# Altium footprint library Mounting_Wuerth.PcbLib: 191 footprints (part 12 of 12)
Each footprint in its own frame and in the unit in brackets; x right, y up, seen from the top. Pads: shape width x height; smd on the part's side, far side on the other; paste and mask are expansions set on the pad; w line width, h text height; cw(c..) or ccw(c..) is an arc to the next point about the centre after c.
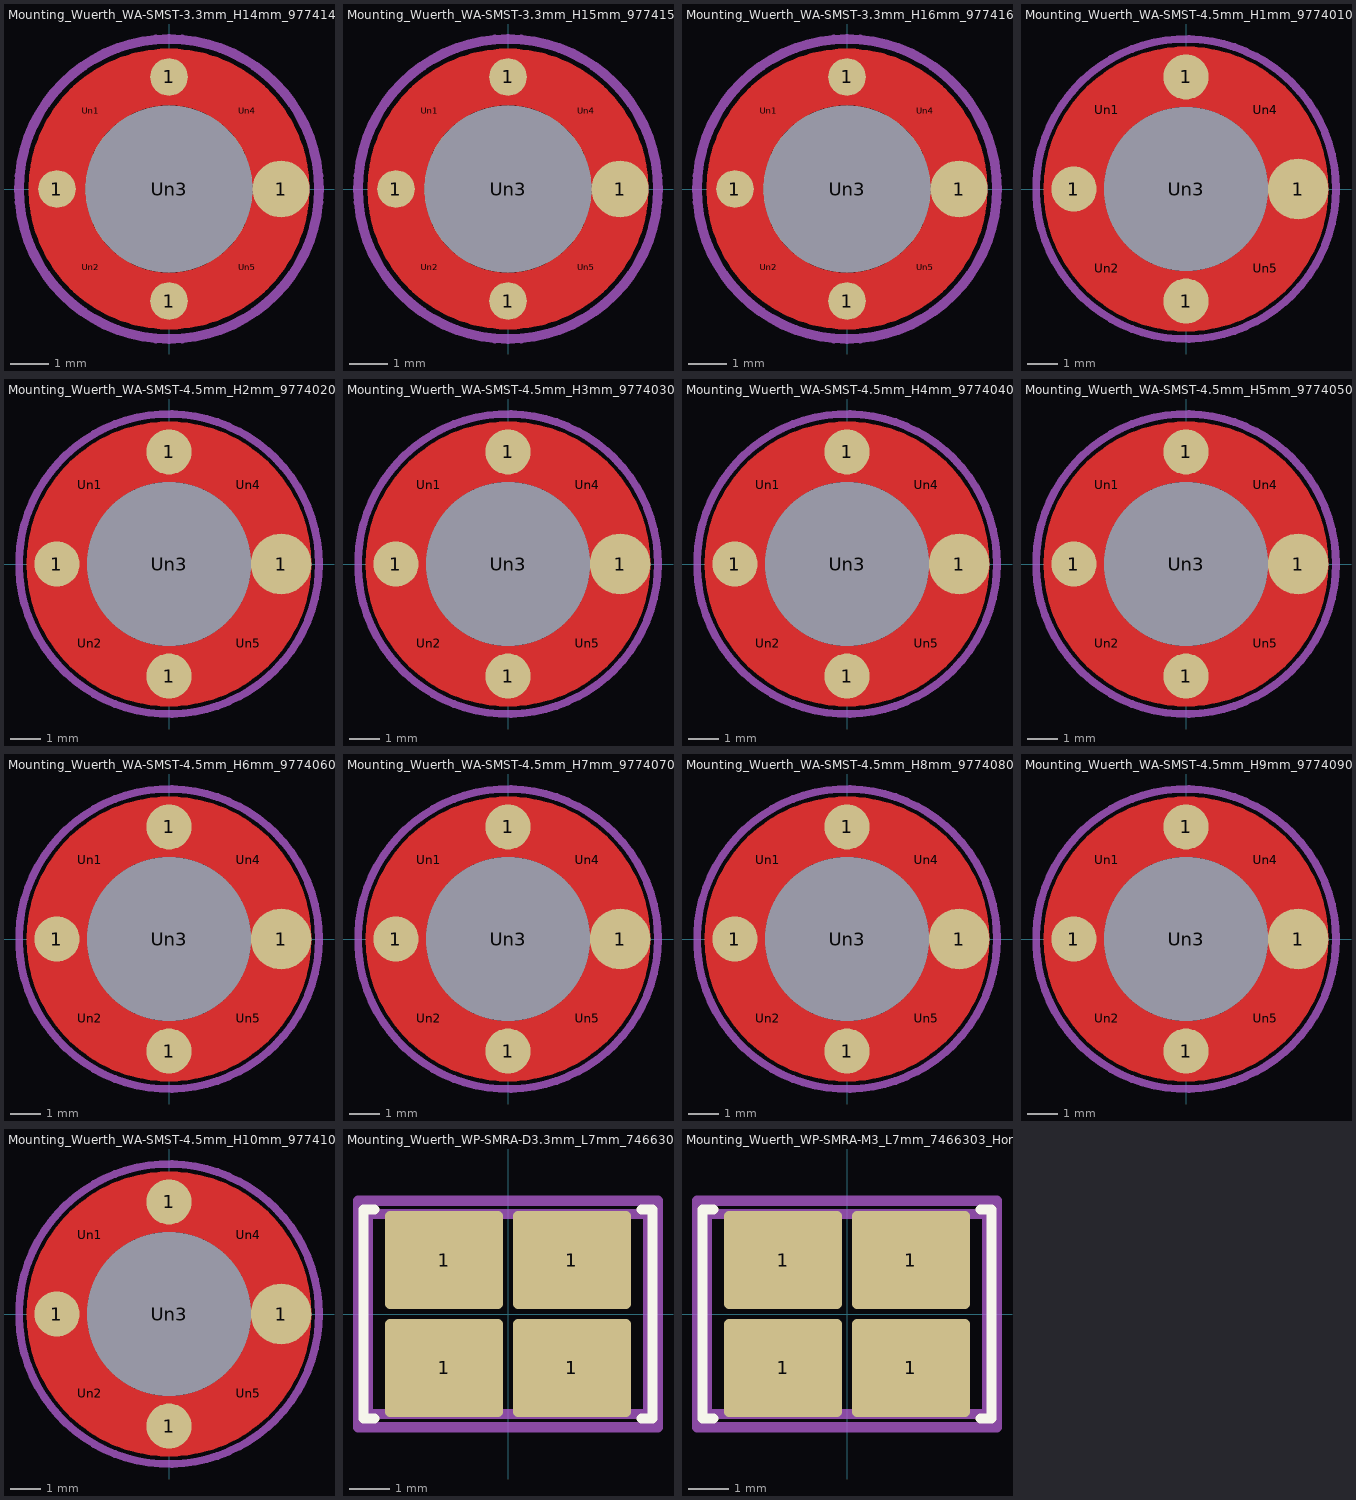
[diagram p11: the footprints below, top view; thin cyan lines are the x and y axes]

## Mounting_Wuerth_WA-SMST-3.3mm_H14mm_9774140960 [mm]
pads (9):
  round 0.992 smd: 1(-2.95,0) 1(0,-2.95) 1(0,2.95)
  round 1.5 smd: 1(2.95,0)
  round 0.55 on Top Paste: Un1(-2.058,2.058) Un2(-2.058,-2.058) Un4(2.058,2.058) Un5(2.058,-2.058)
  round 4.4 hole 4.4: Un3(0,0)
F.Cu:
  circle w1.5: c0,0 r2.95
F.Paste:
  lines w0.2: -3.342,-0.35 -2.435,-0.35 ; -3.342,0.35 -2.435,0.35 ; -0.35,-3.342 -0.35,-2.435 ; -0.35,2.435 -0.35,3.342 ; 0.35,-3.342 0.35,-2.435 ; 0.35,2.435 0.35,3.342 ; 2.435,-0.35 3.342,-0.35 ; 2.435,0.35 3.342,0.35
F.Mask:
  circle w1.5: c0,0 r2.95
Top Assembly:
  circle w0.254: c0,0 r3
  text "'.Designator'" at -4.047,-0.84 h1
Top Courtyard:
  circle w0.254: c0,0 r3.95
Top Designator:
  text ".Designator" at -7.677,-0.508 h1.52
3D body "Mounting_Wuerth_WA-SMST-3.3mm_H14mm_9774140960.step": height 14, standoff -1.4, extent -3,-3 3,3

## Mounting_Wuerth_WA-SMST-3.3mm_H15mm_9774150960 [mm]
pads (9):
  round 0.992 smd: 1(-2.95,0) 1(0,-2.95) 1(0,2.95)
  round 1.5 smd: 1(2.95,0)
  round 0.55 on Top Paste: Un1(-2.058,2.058) Un2(-2.058,-2.058) Un4(2.058,2.058) Un5(2.058,-2.058)
  round 4.4 hole 4.4: Un3(0,0)
F.Cu:
  circle w1.5: c0,0 r2.95
F.Paste:
  lines w0.2: -3.342,-0.35 -2.435,-0.35 ; -3.342,0.35 -2.435,0.35 ; -0.35,-3.342 -0.35,-2.435 ; -0.35,2.435 -0.35,3.342 ; 0.35,-3.342 0.35,-2.435 ; 0.35,2.435 0.35,3.342 ; 2.435,-0.35 3.342,-0.35 ; 2.435,0.35 3.342,0.35
F.Mask:
  circle w1.5: c0,0 r2.95
Top Assembly:
  circle w0.254: c0,0 r3
  text "'.Designator'" at -4.047,-0.84 h1
Top Courtyard:
  circle w0.254: c0,0 r3.95
Top Designator:
  text ".Designator" at -7.677,-0.508 h1.52
3D body "Mounting_Wuerth_WA-SMST-3.3mm_H15mm_9774150960.step": height 15, standoff -1.4, extent -3,-3 3,3

## Mounting_Wuerth_WA-SMST-3.3mm_H16mm_9774160960 [mm]
pads (9):
  round 0.992 smd: 1(-2.95,0) 1(0,-2.95) 1(0,2.95)
  round 1.5 smd: 1(2.95,0)
  round 0.55 on Top Paste: Un1(-2.058,2.058) Un2(-2.058,-2.058) Un4(2.058,2.058) Un5(2.058,-2.058)
  round 4.4 hole 4.4: Un3(0,0)
F.Cu:
  circle w1.5: c0,0 r2.95
F.Paste:
  lines w0.2: -3.342,-0.35 -2.435,-0.35 ; -3.342,0.35 -2.435,0.35 ; -0.35,-3.342 -0.35,-2.435 ; -0.35,2.435 -0.35,3.342 ; 0.35,-3.342 0.35,-2.435 ; 0.35,2.435 0.35,3.342 ; 2.435,-0.35 3.342,-0.35 ; 2.435,0.35 3.342,0.35
F.Mask:
  circle w1.5: c0,0 r2.95
Top Assembly:
  circle w0.254: c0,0 r3
  text "'.Designator'" at -4.047,-0.84 h1
Top Courtyard:
  circle w0.254: c0,0 r3.95
Top Designator:
  text ".Designator" at -7.677,-0.508 h1.52

## Mounting_Wuerth_WA-SMST-4.5mm_H1mm_9774010982 [mm]
pads (9):
  round 1.492 smd: 1(-3.7,0) 1(0,-3.7) 1(0,3.7)
  round 2 smd: 1(3.7,0)
  round 0.947 on Top Paste: Un1(-2.607,2.607) Un2(-2.607,-2.607) Un4(2.607,2.607) Un5(2.607,-2.607)
  round 5.4 hole 5.4: Un3(0,0)
F.Cu:
  circle w2: c0,0 r3.7
F.Paste:
  lines w0.2: -4.507,-0.5 -2.796,-0.5 ; -4.507,0.5 -2.796,0.5 ; -0.5,-4.507 -0.5,-2.796 ; -0.5,2.796 -0.5,4.507 ; 0.5,-4.507 0.5,-2.796 ; 0.5,2.796 0.5,4.507 ; 2.796,-0.5 4.507,-0.5 ; 2.796,0.5 4.507,0.5
F.Mask:
  circle w2: c0,0 r3.7
Top Assembly:
  circle w0.254: c0,0 r4.1
  text "'.Designator'" at -4.047,-0.84 h1
Top Courtyard:
  circle w0.254: c0,0 r4.95
Top Designator:
  text ".Designator" at -7.618,-0.508 h1.52
3D body "Mounting_Wuerth_WA-SMST-4.5mm_H1mm_9774010982.step": height 1, standoff -1.4, extent -4.1,-4.1 4.1,4.1

## Mounting_Wuerth_WA-SMST-4.5mm_H2mm_9774020982 [mm]
pads (9):
  round 1.492 smd: 1(-3.7,0) 1(0,-3.7) 1(0,3.7)
  round 2 smd: 1(3.7,0)
  round 0.947 on Top Paste: Un1(-2.607,2.607) Un2(-2.607,-2.607) Un4(2.607,2.607) Un5(2.607,-2.607)
  round 5.4 hole 5.4: Un3(0,0)
F.Cu:
  circle w2: c0,0 r3.7
F.Paste:
  lines w0.2: -4.507,-0.5 -2.796,-0.5 ; -4.507,0.5 -2.796,0.5 ; -0.5,-4.507 -0.5,-2.796 ; -0.5,2.796 -0.5,4.507 ; 0.5,-4.507 0.5,-2.796 ; 0.5,2.796 0.5,4.507 ; 2.796,-0.5 4.507,-0.5 ; 2.796,0.5 4.507,0.5
F.Mask:
  circle w2: c0,0 r3.7
Top Assembly:
  circle w0.254: c0,0 r4.1
  text "'.Designator'" at -4.047,-0.84 h1
Top Courtyard:
  circle w0.254: c0,0 r4.95
Top Designator:
  text ".Designator" at -7.618,-0.508 h1.52
3D body "Mounting_Wuerth_WA-SMST-4.5mm_H2mm_9774020982.step": height 2, standoff -1.4, extent -4.1,-4.1 4.1,4.1

## Mounting_Wuerth_WA-SMST-4.5mm_H3mm_9774030982 [mm]
pads (9):
  round 1.492 smd: 1(-3.7,0) 1(0,-3.7) 1(0,3.7)
  round 2 smd: 1(3.7,0)
  round 0.947 on Top Paste: Un1(-2.607,2.607) Un2(-2.607,-2.607) Un4(2.607,2.607) Un5(2.607,-2.607)
  round 5.4 hole 5.4: Un3(0,0)
F.Cu:
  circle w2: c0,0 r3.7
F.Paste:
  lines w0.2: -4.507,-0.5 -2.796,-0.5 ; -4.507,0.5 -2.796,0.5 ; -0.5,-4.507 -0.5,-2.796 ; -0.5,2.796 -0.5,4.507 ; 0.5,-4.507 0.5,-2.796 ; 0.5,2.796 0.5,4.507 ; 2.796,-0.5 4.507,-0.5 ; 2.796,0.5 4.507,0.5
F.Mask:
  circle w2: c0,0 r3.7
Top Assembly:
  circle w0.254: c0,0 r4.1
  text "'.Designator'" at -4.047,-0.84 h1
Top Courtyard:
  circle w0.254: c0,0 r4.95
Top Designator:
  text ".Designator" at -7.618,-0.508 h1.52
3D body "Mounting_Wuerth_WA-SMST-4.5mm_H3mm_9774030982.step": height 3, standoff -1.4, extent -4.1,-4.1 4.1,4.1

## Mounting_Wuerth_WA-SMST-4.5mm_H4mm_9774040982 [mm]
pads (9):
  round 1.492 smd: 1(-3.7,0) 1(0,-3.7) 1(0,3.7)
  round 2 smd: 1(3.7,0)
  round 0.947 on Top Paste: Un1(-2.607,2.607) Un2(-2.607,-2.607) Un4(2.607,2.607) Un5(2.607,-2.607)
  round 5.4 hole 5.4: Un3(0,0)
F.Cu:
  circle w2: c0,0 r3.7
F.Paste:
  lines w0.2: -4.507,-0.5 -2.796,-0.5 ; -4.507,0.5 -2.796,0.5 ; -0.5,-4.507 -0.5,-2.796 ; -0.5,2.796 -0.5,4.507 ; 0.5,-4.507 0.5,-2.796 ; 0.5,2.796 0.5,4.507 ; 2.796,-0.5 4.507,-0.5 ; 2.796,0.5 4.507,0.5
F.Mask:
  circle w2: c0,0 r3.7
Top Assembly:
  circle w0.254: c0,0 r4.1
  text "'.Designator'" at -4.047,-0.84 h1
Top Courtyard:
  circle w0.254: c0,0 r4.95
Top Designator:
  text ".Designator" at -7.618,-0.508 h1.52
3D body "Mounting_Wuerth_WA-SMST-4.5mm_H4mm_9774040982.step": height 4, standoff -1.4, extent -4.1,-4.1 4.1,4.1

## Mounting_Wuerth_WA-SMST-4.5mm_H5mm_9774050982 [mm]
pads (9):
  round 1.492 smd: 1(-3.7,0) 1(0,-3.7) 1(0,3.7)
  round 2 smd: 1(3.7,0)
  round 0.947 on Top Paste: Un1(-2.607,2.607) Un2(-2.607,-2.607) Un4(2.607,2.607) Un5(2.607,-2.607)
  round 5.4 hole 5.4: Un3(0,0)
F.Cu:
  circle w2: c0,0 r3.7
F.Paste:
  lines w0.2: -4.507,-0.5 -2.796,-0.5 ; -4.507,0.5 -2.796,0.5 ; -0.5,-4.507 -0.5,-2.796 ; -0.5,2.796 -0.5,4.507 ; 0.5,-4.507 0.5,-2.796 ; 0.5,2.796 0.5,4.507 ; 2.796,-0.5 4.507,-0.5 ; 2.796,0.5 4.507,0.5
F.Mask:
  circle w2: c0,0 r3.7
Top Assembly:
  circle w0.254: c0,0 r4.1
  text "'.Designator'" at -4.047,-0.84 h1
Top Courtyard:
  circle w0.254: c0,0 r4.95
Top Designator:
  text ".Designator" at -7.618,-0.508 h1.52
3D body "Mounting_Wuerth_WA-SMST-4.5mm_H5mm_9774050982.step": height 5, standoff -1.4, extent -4.1,-4.1 4.1,4.1

## Mounting_Wuerth_WA-SMST-4.5mm_H6mm_9774060982 [mm]
pads (9):
  round 1.492 smd: 1(-3.7,0) 1(0,-3.7) 1(0,3.7)
  round 2 smd: 1(3.7,0)
  round 0.947 on Top Paste: Un1(-2.607,2.607) Un2(-2.607,-2.607) Un4(2.607,2.607) Un5(2.607,-2.607)
  round 5.4 hole 5.4: Un3(0,0)
F.Cu:
  circle w2: c0,0 r3.7
F.Paste:
  lines w0.2: -4.507,-0.5 -2.796,-0.5 ; -4.507,0.5 -2.796,0.5 ; -0.5,-4.507 -0.5,-2.796 ; -0.5,2.796 -0.5,4.507 ; 0.5,-4.507 0.5,-2.796 ; 0.5,2.796 0.5,4.507 ; 2.796,-0.5 4.507,-0.5 ; 2.796,0.5 4.507,0.5
F.Mask:
  circle w2: c0,0 r3.7
Top Assembly:
  circle w0.254: c0,0 r4.1
  text "'.Designator'" at -4.047,-0.84 h1
Top Courtyard:
  circle w0.254: c0,0 r4.95
Top Designator:
  text ".Designator" at -7.618,-0.508 h1.52
3D body "Mounting_Wuerth_WA-SMST-4.5mm_H6mm_9774060982.step": height 6, standoff -1.4, extent -4.1,-4.1 4.1,4.1

## Mounting_Wuerth_WA-SMST-4.5mm_H7mm_9774070982 [mm]
pads (9):
  round 1.492 smd: 1(-3.7,0) 1(0,-3.7) 1(0,3.7)
  round 2 smd: 1(3.7,0)
  round 0.947 on Top Paste: Un1(-2.607,2.607) Un2(-2.607,-2.607) Un4(2.607,2.607) Un5(2.607,-2.607)
  round 5.4 hole 5.4: Un3(0,0)
F.Cu:
  circle w2: c0,0 r3.7
F.Paste:
  lines w0.2: -4.507,-0.5 -2.796,-0.5 ; -4.507,0.5 -2.796,0.5 ; -0.5,-4.507 -0.5,-2.796 ; -0.5,2.796 -0.5,4.507 ; 0.5,-4.507 0.5,-2.796 ; 0.5,2.796 0.5,4.507 ; 2.796,-0.5 4.507,-0.5 ; 2.796,0.5 4.507,0.5
F.Mask:
  circle w2: c0,0 r3.7
Top Assembly:
  circle w0.254: c0,0 r4.1
  text "'.Designator'" at -4.047,-0.84 h1
Top Courtyard:
  circle w0.254: c0,0 r4.95
Top Designator:
  text ".Designator" at -7.618,-0.508 h1.52
3D body "Mounting_Wuerth_WA-SMST-4.5mm_H7mm_9774070982.step": height 7, standoff -1.4, extent -4.1,-4.1 4.1,4.1

## Mounting_Wuerth_WA-SMST-4.5mm_H8mm_9774080982 [mm]
pads (9):
  round 1.492 smd: 1(-3.7,0) 1(0,-3.7) 1(0,3.7)
  round 2 smd: 1(3.7,0)
  round 0.947 on Top Paste: Un1(-2.607,2.607) Un2(-2.607,-2.607) Un4(2.607,2.607) Un5(2.607,-2.607)
  round 5.4 hole 5.4: Un3(0,0)
F.Cu:
  circle w2: c0,0 r3.7
F.Paste:
  lines w0.2: -4.507,-0.5 -2.796,-0.5 ; -4.507,0.5 -2.796,0.5 ; -0.5,-4.507 -0.5,-2.796 ; -0.5,2.796 -0.5,4.507 ; 0.5,-4.507 0.5,-2.796 ; 0.5,2.796 0.5,4.507 ; 2.796,-0.5 4.507,-0.5 ; 2.796,0.5 4.507,0.5
F.Mask:
  circle w2: c0,0 r3.7
Top Assembly:
  circle w0.254: c0,0 r4.1
  text "'.Designator'" at -4.047,-0.84 h1
Top Courtyard:
  circle w0.254: c0,0 r4.95
Top Designator:
  text ".Designator" at -7.618,-0.508 h1.52
3D body "Mounting_Wuerth_WA-SMST-4.5mm_H8mm_9774080982.step": height 8, standoff -1.4, extent -4.1,-4.1 4.1,4.1

## Mounting_Wuerth_WA-SMST-4.5mm_H9mm_9774090982 [mm]
pads (9):
  round 1.492 smd: 1(-3.7,0) 1(0,-3.7) 1(0,3.7)
  round 2 smd: 1(3.7,0)
  round 0.947 on Top Paste: Un1(-2.607,2.607) Un2(-2.607,-2.607) Un4(2.607,2.607) Un5(2.607,-2.607)
  round 5.4 hole 5.4: Un3(0,0)
F.Cu:
  circle w2: c0,0 r3.7
F.Paste:
  lines w0.2: -4.507,-0.5 -2.796,-0.5 ; -4.507,0.5 -2.796,0.5 ; -0.5,-4.507 -0.5,-2.796 ; -0.5,2.796 -0.5,4.507 ; 0.5,-4.507 0.5,-2.796 ; 0.5,2.796 0.5,4.507 ; 2.796,-0.5 4.507,-0.5 ; 2.796,0.5 4.507,0.5
F.Mask:
  circle w2: c0,0 r3.7
Top Assembly:
  circle w0.254: c0,0 r4.1
  text "'.Designator'" at -4.047,-0.84 h1
Top Courtyard:
  circle w0.254: c0,0 r4.95
Top Designator:
  text ".Designator" at -7.618,-0.508 h1.52
3D body "Mounting_Wuerth_WA-SMST-4.5mm_H9mm_9774090982.step": height 9, standoff -1.4, extent -4.1,-4.1 4.1,4.1

## Mounting_Wuerth_WA-SMST-4.5mm_H10mm_9774100982 [mm]
pads (9):
  round 1.492 smd: 1(-3.7,0) 1(0,-3.7) 1(0,3.7)
  round 2 smd: 1(3.7,0)
  round 0.947 on Top Paste: Un1(-2.607,2.607) Un2(-2.607,-2.607) Un4(2.607,2.607) Un5(2.607,-2.607)
  round 5.4 hole 5.4: Un3(0,0)
F.Cu:
  circle w2: c0,0 r3.7
F.Paste:
  lines w0.2: -4.507,-0.5 -2.796,-0.5 ; -4.507,0.5 -2.796,0.5 ; -0.5,-4.507 -0.5,-2.796 ; -0.5,2.796 -0.5,4.507 ; 0.5,-4.507 0.5,-2.796 ; 0.5,2.796 0.5,4.507 ; 2.796,-0.5 4.507,-0.5 ; 2.796,0.5 4.507,0.5
F.Mask:
  circle w2: c0,0 r3.7
Top Assembly:
  circle w0.254: c0,0 r4.1
  text "'.Designator'" at -4.047,-0.84 h1
Top Courtyard:
  circle w0.254: c0,0 r4.95
Top Designator:
  text ".Designator" at -7.618,-0.508 h1.52
3D body "Mounting_Wuerth_WA-SMST-4.5mm_H10mm_9774100982.step": height 10, standoff -1.4, extent -4.1,-4.1 4.1,4.1

## Mounting_Wuerth_WP-SMRA-D3.3mm_L7mm_7466300_Horizontal [mm]
pads (4):
  rrect10% 2.95x2.45 smd: 1(-1.6,-1.35) 1(-1.6,1.35) 1(1.6,-1.35) 1(1.6,1.35)
F.SilkS:
  lines w0.254: -3.34,-2.61 -3.61,-2.61 -3.61,2.61 -3.34,2.61 ; 3.34,-2.61 3.61,-2.61 3.61,2.61 3.34,2.61
Top Assembly:
  lines w0.254: -3.5,-2.5 3.5,-2.5 3.5,2.5 -3.5,2.5 -3.5,-2.5
  text "'.Designator'" at -4.047,-0.84 h1
Top Courtyard:
  lines w0.254: -3.75,-2.83 3.75,-2.83 3.75,2.83 -3.75,2.83 -3.75,-2.83
Top Designator:
  text ".Designator" at -7.768,-0.508 h1.52
3D body "Mounting_Wuerth_WP-SMRA-D3.3mm_L7mm_7466300_Horizontal.step": height 5, standoff 0, extent -3.5,-2.5 3.5,2.5

## Mounting_Wuerth_WP-SMRA-M3_L7mm_7466303_Horizontal [mm]
pads (4):
  rrect10% 2.95x2.45 smd: 1(-1.6,-1.35) 1(-1.6,1.35) 1(1.6,-1.35) 1(1.6,1.35)
F.SilkS:
  lines w0.254: -3.34,-2.61 -3.61,-2.61 -3.61,2.61 -3.34,2.61 ; 3.34,-2.61 3.61,-2.61 3.61,2.61 3.34,2.61
Top Assembly:
  lines w0.254: -3.5,-2.5 -3.5,2.5 3.5,2.5 3.5,-2.5 -3.5,-2.5
  text "'.Designator'" at -4.047,-0.84 h1
Top Courtyard:
  lines w0.254: -3.75,-2.83 -3.75,2.83 3.75,2.83 3.75,-2.83 -3.75,-2.83
Top Designator:
  text ".Designator" at -7.768,-0.508 h1.52
3D body "Mounting_Wuerth_WP-SMRA-M3_L7mm_7466303_Horizontal.step": height 5, standoff 0, extent -3.5,-2.5 3.5,2.5